# EAGLE library part 35PIN_CONNECTOR (library Chao)
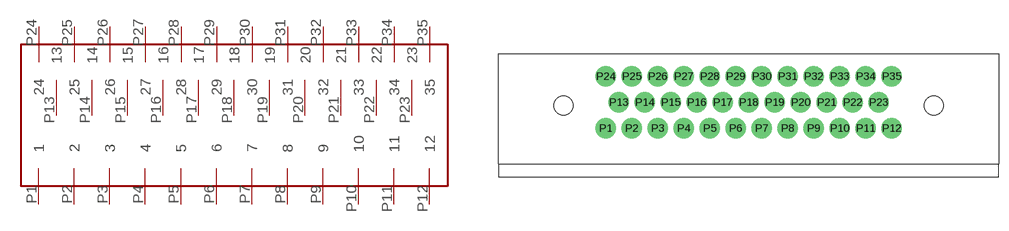
[diagram p6: symbol with the pads of 35PIN_CONNECTOR; footprint 35PIN_CONNECTOR]

Designator prefix -

## 35PIN_CONNECTOR  [35PIN_CONNECTOR]
P1  1
P2  2
P3  3
P4  4
P5  5
P6  6
P7  7
P8  8
P9  9
P10  10
P11  11
P12  12
P13  13
P14  14
P15  15
P16  16
P17  17
P18  18
P19  19
P20  20
P21  21
P22  22
P23  23
P24  24
P25  25
P26  26
P27  27
P28  28
P29  29
P30  30
P31  31
P32  32
P33  33
P34  34
P35  35

## Footprint 35PIN_CONNECTOR (pad centres in mm)
drill 2.2: P1 -22,-4; P2 -18,-4; P3 -14,-4; P4 -10,-4; P5 -6,-4; P6 -2,-4; P7 2,-4; P8 6,-4; P9 10,-4; P10 14,-4; P11 18,-4; P12 22,-4; P13 -20,0; P14 -16,0; P15 -12,0; P16 -8,0; P17 -4,0; P18 0,0; P19 4,0; P20 8,0; P21 12,0; P22 16,0; P23 20,0; P24 -22,4; P25 -18,4; P26 -14,4; P27 -10,4; P28 -6,4; P29 -2,4; P30 2,4; P31 6,4; P32 10,4; P33 14,4; P34 18,4; P35 22,4
hole 2.85 at -28.5,-0.5
hole 2.85 at 28.5,-0.5